# EAGLE library part CMC_48PIN_REC (library wiring)
"Description: 48 Pin CMC receptacle connector (40 signal 8 power) Manufacturer Part Number: 643201319 Manufacturer: Molex Vendor: Digikey Rows: 4 Pins: 48 Crimp Type: Female Waterproof: Yes Item URL: https://www.digikey.com/en/products/detail/molex/0643201319/2522707?s=N4IgTCBcDaIGwBYDMYAMBGJ6CcIC6AvkA"
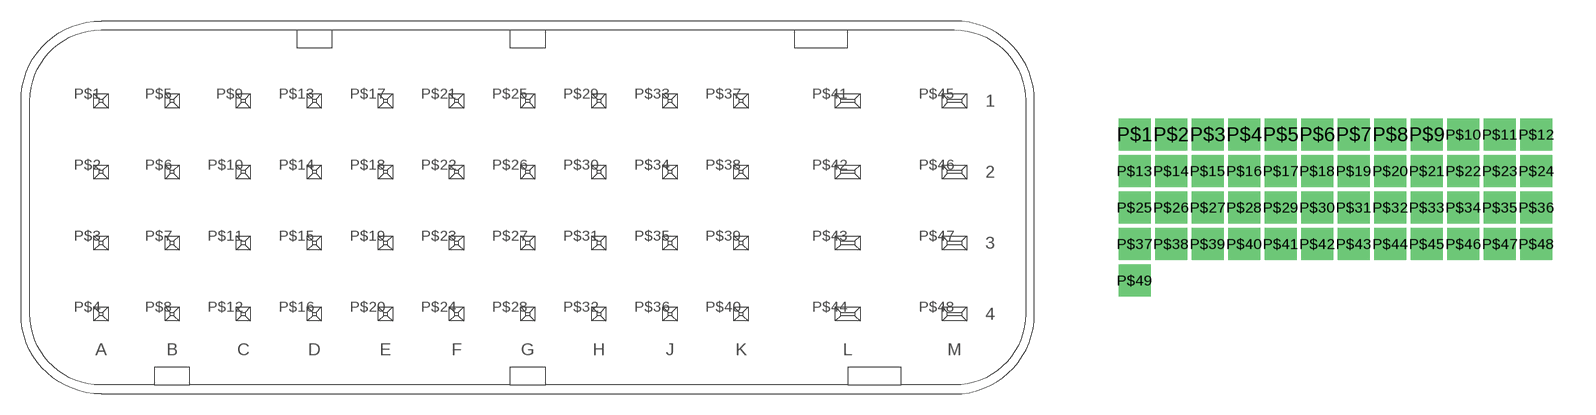
[diagram p4: symbol with the pads of PINS_49; footprint PINS_49]

Designator prefix -

## CMC_48PIN_REC  [PINS_49]
P$1  A1
P$2  A2
P$3  A3
P$4  A4
P$5  B1
P$6  B2
P$7  B3
P$8  B4
P$9  C1
P$10  C2
P$11  C3
P$12  C4
P$13  D1
P$14  D2
P$15  D3
P$16  D4
P$17  E1
P$18  E2
P$19  E3
P$20  E4
P$21  F1
P$22  F2
P$23  F3
P$24  F4
P$25  G1
P$26  G2
P$27  G3
P$28  G4
P$29  H1
P$30  H2
P$31  H3
P$32  H4
P$33  J1
P$34  J2
P$35  J3
P$36  J4
P$37  K1
P$38  K2
P$39  K3
P$40  K4
P$41  L1  pwr
P$42  L2  pwr
P$43  L3  pwr
P$44  L4  pwr
P$45  M1  oc
P$46  M2  pwr
P$47  M3  pwr
P$48  M4  pwr

## Footprint PINS_49 (pad centres in mm)
drill 0.6 square: P$1 0,0; P$2 1.27,0; P$3 2.54,0; P$4 3.81,0; P$5 5.08,0; P$6 6.35,0; P$7 7.62,0; P$8 8.89,0; P$9 10.16,0; P$10 11.43,0; P$11 12.7,0; P$12 13.97,0; P$13 0,-1.27; P$14 1.27,-1.27; P$15 2.54,-1.27; P$16 3.81,-1.27; P$17 5.08,-1.27; P$18 6.35,-1.27; P$19 7.62,-1.27; P$20 8.89,-1.27; P$21 10.16,-1.27; P$22 11.43,-1.27; P$23 12.7,-1.27; P$24 13.97,-1.27; P$25 0,-2.54; P$26 1.27,-2.54; P$27 2.54,-2.54; P$28 3.81,-2.54; P$29 5.08,-2.54; P$30 6.35,-2.54; P$31 7.62,-2.54; P$32 8.89,-2.54; P$33 10.16,-2.54; P$34 11.43,-2.54; P$35 12.7,-2.54; P$36 13.97,-2.54; P$37 0,-3.81; P$38 1.27,-3.81; P$39 2.54,-3.81; P$40 3.81,-3.81; P$41 5.08,-3.81; P$42 6.35,-3.81; P$43 7.62,-3.81; P$44 8.89,-3.81; P$45 10.16,-3.81; P$46 11.43,-3.81; P$47 12.7,-3.81; P$48 13.97,-3.81; P$49 0,-5.08